# Altium schematic symbol library Main.SchLib: 76 symbols
Pins are listed as number, name and electrical type; pins without a type are passive.

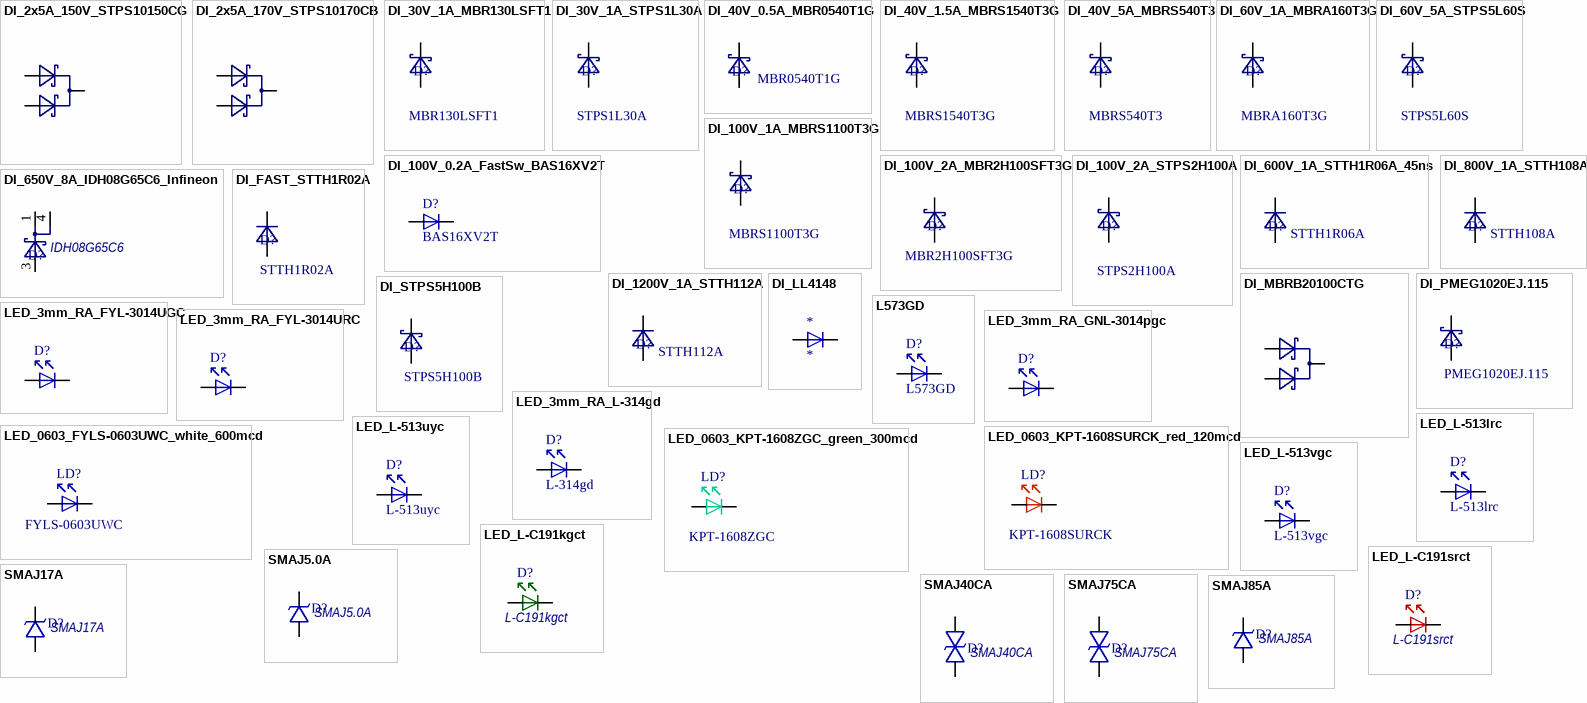
[diagram p0: symbols DI_2x5A_150V_STPS10150CG to SMAJ85A]

## DI_2x5A_150V_STPS10150CG
designator D?, comment STPS10150CG
HelpURL: L:\Dev\Техническая документация\Диоды\Шоттки\Мощные\2x5A_150V_stps10150c.pdf
footprint TO_263
pins: 1, 3, 4

## DI_2x5A_170V_STPS10170CB
designator D?, comment STPS10170CB
HelpURL: L:\Dev\Техническая документация\Диоды\Шоттки\Мощные\2x5A_170V_st_stps10170.pdf
footprint D-PAK
pins: 1, 2, 3

## DI_30V_1A_MBR130LSFT1
designator D?, comment Name: MBR130LSFT1  (hidden comment: MBR130LSFT1, ONS)
footprint DIODE_DO-219AB
pins: 1 A, 2 C

## DI_30V_1A_STPS1L30A
designator D?, comment Name: STPS1L30A  (hidden comment: STPS1L30A, ST)
footprint DIODE_DO-214AC (JEDEC DO214 variation AC. SMA)
pins: 1 A, 2 C

## DI_40V_0.5A_MBR0540T1G
designator D?, comment Name: MBR0540T1G  (hidden comment: MBR0540T1G, ONS)
HelpURL: L:\Dev\Техническая документация\Диоды\Шоттки\Маломощные\MBR0540T1-D.PDF
footprint SOD_123 (SOD, 2-Leads, Body 1.55x3.70mm, IPC Medium Density)
pins: A, C

## DI_40V_1.5A_MBRS1540T3G
designator D?, comment Name: MBRS1540T3G  (hidden comment: MBRS1540T3G, ONS)
footprint DIODE_DO-214AA (Molded Diode, 2-Leads, Body 4,31x3,62mm, IPC Medium Density)
pins: 1 A, 2 C

## DI_40V_5A_MBRS540T3
designator D?, comment Name: MBRS540T3  (hidden comment: MBRS540T3, ONS)
footprint DIODE_DO-214AB
pins: 1 A, 2 C

## DI_60V_1A_MBRA160T3G
designator D?, comment Name: MBRA160T3G  (hidden comment: MBRA160T3G, ONS)
footprint DIODE_DO-214AC (JEDEC DO214 variation AC. SMA)
pins: 1 A, 2 C

## DI_60V_5A_STPS5L60S
designator D?, comment Name: STPS5L60S  (hidden comment: STPS5L60S, ST)
Value: 60V 5A; HelpURL: L:\Dev\Техническая документация\Диоды\Шоттки\ST\60V_5A_stps5l60.pdf
footprint DIODE_DO-214AB
pins: 1 A, 2 C

## DI_100V_0.2A_FastSw_BAS16XV2T
designator D?, comment BAS16XV2T
Диод; Price, $: 0.02; HelpURL: L:\Dev\Техническая документация\Диоды\Fast Switching\Diodes\bas16xv2t1g.pdf
footprint SOD_523 (SC-79)
pins: A 1, C 2

## DI_100V_1A_MBRS1100T3G
designator D?, comment Name: MBRS1100T3G  (hidden comment: MBRS1100T3G, ONS)
footprint DIODE_DO-214AA (Molded Diode, 2-Leads, Body 4,31x3,62mm, IPC Medium Density)
pins: 1 A, 2 C

## DI_100V_2A_MBR2H100SFT3G
designator D?, comment Name: MBR2H100SFT3G  (hidden comment: MBR2H100SFT3G, ON)
HelpURL: L:\Dev\Техническая документация\Диоды\Шоттки\Мощные\100V_2A_mbr2h100sft3g_ONS.pdf
footprint SOD_123 (SOD, 2-Leads, Body 1.55x3.70mm, IPC Medium Density)
pins: A, C

## DI_100V_2A_STPS2H100A
designator D?, comment Name: STPS2H100A  (hidden comment: STPS2H100A, ST)
footprint DIODE_DO-214AC (JEDEC DO214 variation AC. SMA)
pins: 1 A, 2 C

## DI_600V_1A_STTH1R06A_45ns
designator D?, comment Name: STTH1R06A  (hidden comment: STTH1R06A, ST)
HelpURL: L:\Dev\Техническая документация\Диоды\Высоковольтные\st_stth1r06.pdf; Price, $: 0.15
footprint DIODE_DO-214AC (JEDEC DO214 variation AC. SMA)
pins: 1 A, 2 C

## DI_650V_8A_IDH08G65C6_Infineon
designator D?, comment value IDH08G65C6  (hidden comment: IDH08G65C6, Infineon)
Analog: IDH08G65C6XKSA1; HelpURL: L:\Dev\Техническая документация\Диоды\SiC\Infineon\8A_650V_IDH08G65C6.pdf
footprint TO_220AC-2 FLAT
pins: 1 A, 3 A, 4 C

## DI_800V_1A_STTH108A
designator D?, comment Name: STTH108A  (hidden comment: STTH108A, ST)
HelpURL: L:\Dev\Техническая документация\Диоды\Ультрабыстрые\stth108a.pdf
footprint DIODE_DO-214AC (JEDEC DO214 variation AC. SMA)
pins: 1 A, 2 C

## DI_1200V_1A_STTH112A
designator D?, comment Name: STTH112A  (hidden comment: STTH112A, ST)
HelpURL: L:\Dev\Техническая документация\Диоды\Ультрабыстрые\st~stth112.pdf
footprint DIODE_DO-214AC (JEDEC DO214 variation AC. SMA)
pins: 1 A, 2 C

## DI_FAST_STTH1R02A
designator D?, comment STTH1R02A
Vобр: 200V; Iпр: 1.5A; Vпр(Iпр1,5А): 1В
footprint DIODE_DO-214AC (JEDEC DO214 variation AC. SMA)
pins: 1 A, 2 C

## DI_LL4148
designator *
footprint SOD_80_MINIMELF
pins: A 1, C 2

## DI_MBRB20100CTG
designator D?, comment MBRB20100CTG
footprint TO_263
pins: 1, 3, 4

## DI_PMEG1020EJ.115
designator D?, comment PMEG1020EJ.115
footprint SOD_323 (SC-76)
pins: A, C

## DI_STPS5H100B
designator D?, comment STPS5H100B
Vr: 100V; If: 5A
footprint D-PAK
pins: 2 A, 3 C

## L573GD
designator D?
footprint LED_L-513
pins: 1, 2

## LED_3mm_RA_FYL-3014UGC
designator D?, comment FYL-3014UGC (FORYARD)  (value not drawn)
Analog: 151034GS03000, WE
footprint LED_L-314xx_RA
pins: 1, 2

## LED_3mm_RA_FYL-3014URC
designator D?, comment FYL-3014URC, FORYARD  (value not drawn)
Analog: 151033RS03000, WE
footprint LED_L-314xx_RA
pins: 1, 2

## LED_3mm_RA_GNL-3014pgc
designator D?, comment GNL-3014pgc  (value not drawn)
Analog: 151034GS03000, WE
footprint LED_L-314xx_RA
pins: 1, 2

## LED_3mm_RA_L-314gd
designator D?, comment L-314gd
footprint LED_L-314xx_RA
pins: 1, 2

## LED_0603_FYLS-0603UWC_white_600mcd
designator LD?, comment value FYLS-0603UWC  (hidden comment: FYLS-0603UWC, Foryard)
HelpURL: L:\Dev\Техническая документация\Светодиоды\FORYARD\FYLS-0603uwc.pdf
footprint LED_0603 WHITE
pins: 1, 2

## LED_0603_KPT-1608SURCK_red_120mcd
designator LD?, comment value KPT-1608SURCK  (hidden comment: KPT-1608SURCK, KingBright)
Analog: 150060RS75000; HelpURL: L:\Dev\Техническая документация\Светодиоды\Kingbright\SMD\KPT-1608SURCK(0603).pdf
footprint LED_0603_RED
pins: 1, 2

## LED_0603_KPT-1608ZGC_green_300mcd
designator LD?, comment value KPT-1608ZGC  (hidden comment: KPT-1608ZGC, KingBright)
Analog: 150060GS75000,WE; HelpURL: L:\Dev\Техническая документация\Светодиоды\Kingbright\SMD\KPT-1608ZGC(0603).pdf
footprint LED_0603_GREEN
pins: 1, 2

## LED_L-513lrc
designator D?, comment L-513lrc
footprint LED_L-513_red
pins: 1 A, 2 C

## LED_L-513uyc
designator D?, comment L-513uyc
footprint LED_L-513_yellow
pins: 1 A, 2 C

## LED_L-513vgc
designator D?, comment L-513vgc
footprint LED_L-513_green
pins: 1 A, 2 C

## LED_L-C191kgct
designator D?, comment value L-C191kgct  (hidden comment: L-C191kgct (0603) ParaLight)
HelpURL: L:\Dev\Техническая документация\Светодиоды\Paralight\L-C191KGCT.pdf; Price, $: 0.033
footprint LED_0603_GREEN
pins: 1, 2

## LED_L-C191srct
designator D?, comment value L-C191srct  (hidden comment: L-C191srct (0603) ParaLight)
footprint LED_0603_red
pins: 1, 2

## SMAJ5.0A
designator D?, comment value SMAJ5.0A  (hidden comment: SMAJ5.0A_LittleFuse)
Vbr: 6.4-7.0V; HelpURL: L:\Dev\Техническая документация\Диоды\Супрессоры\ltl_smaj.pdf
footprint DIODE_DO-214AC (JEDEC DO214 variation AC. SMA)
pins: 1 A, 2 C

## SMAJ17A
designator D?, comment value SMAJ17A  (hidden comment: SMAJ17A_LittleFuse)
Vbr: 18.9-20.9V; HelpURL: L:\Dev\Техническая документация\Диоды\Супрессоры\ltl_smaj.pdf
footprint DIODE_DO-214AC (JEDEC DO214 variation AC. SMA)
pins: 1 A, 2 C

## SMAJ40CA
designator D?, comment value SMAJ40CA  (hidden comment: SMAJ40CA_LittleFuse)
HelpURL: L:\Dev\Техническая документация\Диоды\Супрессоры\ltl_smaj.pdf
footprint DIODE_DO-214AC (JEDEC DO214 variation AC. SMA)
pins: 1 A, 2 C

## SMAJ75CA
designator D?, comment value SMAJ75CA  (hidden comment: SMAJ75CA_LittleFuse)
HelpURL: L:\Dev\Техническая документация\Диоды\Супрессоры\ltl_smaj.pdf
footprint DIODE_DO-214AC (JEDEC DO214 variation AC. SMA)
pins: 1 A, 2 C

## SMAJ85A
designator D?, comment value SMAJ85A  (hidden comment: SMAJ85A_LittleFuse)
Vbr: 94.4-104.0V; HelpURL: L:\Dev\Техническая документация\Диоды\Супрессоры\ltl_smaj.pdf
footprint DIODE_DO-214AC (JEDEC DO214 variation AC. SMA)
pins: 1 A, 2 C

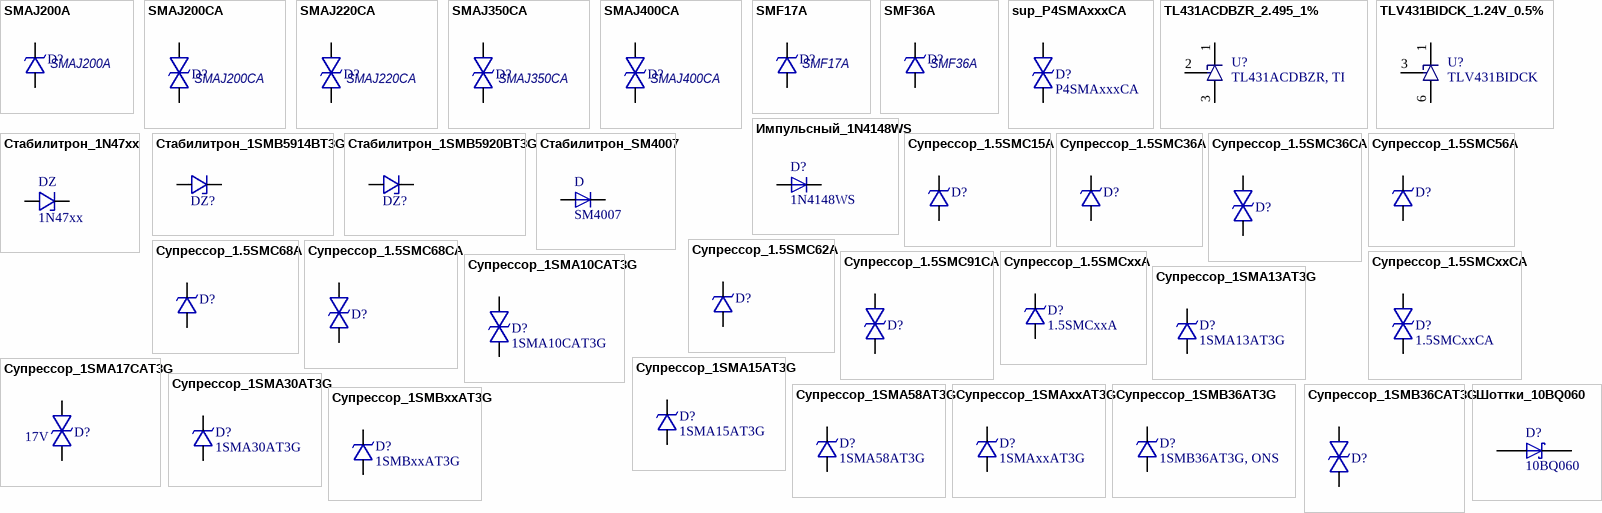
[diagram p1: symbols SMAJ200A to Шоттки_10BQ060]

## SMAJ200A
designator D?, comment value SMAJ200A  (hidden comment: SMAJ200A_LittleFuse)
HelpURL: L:\Dev\Техническая документация\Диоды\Супрессоры\ltl_smaj.pdf
footprint DIODE_DO-214AC (JEDEC DO214 variation AC. SMA)
pins: 1 A, 2 C

## SMAJ200CA
designator D?, comment value SMAJ200CA  (hidden comment: SMAJ200CA_LittleFuse)
HelpURL: L:\Dev\Техническая документация\Диоды\Супрессоры\ltl_smaj.pdf
footprint DIODE_DO-214AC (JEDEC DO214 variation AC. SMA)
pins: 1 A, 2 C

## SMAJ220CA
designator D?, comment value SMAJ220CA  (hidden comment: SMAJ220CA_LittleFuse)
HelpURL: L:\Dev\Техническая документация\Диоды\Супрессоры\ltl_smaj.pdf
footprint DIODE_DO-214AC (JEDEC DO214 variation AC. SMA)
pins: 1 A, 2 C

## SMAJ350CA
designator D?, comment value SMAJ350CA  (hidden comment: SMAJ350CA_LittleFuse)
HelpURL: L:\Dev\Техническая документация\Диоды\Супрессоры\ltl_smaj.pdf
footprint DIODE_DO-214AC (JEDEC DO214 variation AC. SMA)
pins: 1 A, 2 C

## SMAJ400CA
designator D?, comment value SMAJ400CA  (hidden comment: SMAJ400CA_LittleFuse)
HelpURL: L:\Dev\Техническая документация\Диоды\Супрессоры\ltl_smaj.pdf; Price, $: 0.2
footprint DIODE_DO-214AC (JEDEC DO214 variation AC. SMA)
pins: 1 A, 2 C

## SMF17A
designator D?, comment value SMF17A  (hidden comment: SMF17A, LittleFuse)
Vbr: 18.9-20.9V; HelpURL: L:\Dev\Техническая документация\Защита цепей\Супрессоры\Littelfuse_TVS_Diode_SMF_Datasheet.pdf.pdf
footprint DIODE_DO-219AB
pins: 1 A, 2 C

## SMF36A
designator D?, comment value SMF36A  (hidden comment: SMF36A, LittleFuse)
HelpURL: L:\Dev\Техническая документация\Защита цепей\Супрессоры\Littelfuse_TVS_Diode_SMF_Datasheet.pdf.pdf
footprint DIODE_DO-219AB
pins: 1 A, 2 C

## sup_P4SMAxxxCA
designator D?, comment P4SMAxxxCA
footprint DIODE_DO-214AC (JEDEC DO214 variation AC. SMA)
pins: 1, 2

## TL431ACDBZR_2.495_1%
designator U?, comment TL431ACDBZR, TI
HelpURL: L:\Dev\Техническая документация\Источники опорного напряжения\ti~tl431.pdf; Price, $: 0.12
footprint SOT_23 (SOT-23; 3 Leads; Body 3.0 x 2.5 mm, inc. leads (LxW max))
pins: 1, 2, 3

## TLV431BIDCK_1.24V_0.5%
designator U?, comment TLV431BIDCK
HelpURL: L:\Dev\Техническая документация\Источники опорного напряжения\TLV431_TI.pdf
footprint SC_70-6 (SC70-6; SOT-363)
pins: 1, 3, 6

## Импульсный_1N4148WS
designator D?, comment 1N4148WS
150 мА * 100 В; Analog: MMSD4148T1G (OnSemiconductor); Price, $: 0.02; HelpURL: L:\Dev\Техническая документация\Диоды\Fast Switching\Diodes\1N4148WS.pdf
footprint SOD_323 (SC-76)
pins: A 1, C 2

## Стабилитрон_1N47xx
designator DZ, comment 1N47xx
Datasheet: ZENER_1n47xx
footprint DIODE_DO-41 (Diode, Axial; Body 5.2 x 2.7 mm (LxDia. max), Lead Dia. 0.86 mm (max))
pins: A 1, C 2 (oc)

## Стабилитрон_1SMB5914BT3G
designator DZ?, comment 1SMB5914BT3G, ONS  (value not drawn)
3.6 В * 3 Вт; P: 3W; Vz: 3.6V; HelpURL: L:\Dev\Техническая документация\Диоды\Стабилитроны\ON\1SMB59xxBT3G.pdf
footprint DIODE_DO-214AA (Molded Diode, 2-Leads, Body 4,31x3,62mm, IPC Medium Density)
pins: 1, 2

## Стабилитрон_1SMB5920BT3G
designator DZ?, comment 1SMB5920BT3G, ONS  (value not drawn)
U = 6.2V; / P = 3W;; P: 3W; HelpURL: L:\Dev\Техническая документация\Диоды\Стабилитроны\ON\1SMB59xxBT3G.pdf; Vz: 6.2V
footprint DIODE_DO-214AA (Molded Diode, 2-Leads, Body 4,31x3,62mm, IPC Medium Density)
pins: 1, 2

## Стабилитрон_SM4007
designator D, comment SM4007
footprint DIODE_DO-213AB (MELF Diode, 2-Leads, Body 5,00x2,52mm, IPC Medium Density)
pins: A 1, C 2

## Супрессор_1.5SMC15A
designator D?, comment 1.5SMC15AT3G  (value not drawn)
HelpURL: L:\Dev\Техническая документация\Защита цепей\Супрессоры\Littelfuse_TVS_Diode_1_5SMC_Datasheet.pdf-365547.pdf; Value: 1.5SMC15A
footprint DIODE_DO-214AB
pins: 1, 2

## Супрессор_1.5SMC36A
designator D?, comment 1.5SMC36AT3G, (ONS)  (value not drawn)
HelpURL: L:\Dev\Техническая документация\Защита цепей\Супрессоры\Littelfuse_TVS_Diode_1_5SMC_Datasheet.pdf-365547.pdf; Value: 1.5SMC36A
footprint DIODE_DO-214AB
pins: 1, 2

## Супрессор_1.5SMC36CA
designator D?, comment 1.5SMC36CAT3G, (ONS)  (value not drawn)
HelpURL: L:\Dev\Техническая документация\Защита цепей\Супрессоры\Littelfuse_TVS_Diode_1_5SMC_Datasheet.pdf-365547.pdf; Value: 1.5SMC36CA
footprint DIODE_DO-214AB
pins: 1, 2

## Супрессор_1.5SMC56A
designator D?, comment 1.5SMC56A  (value not drawn)
HelpURL: L:\Dev\Техническая документация\Защита цепей\Супрессоры\Littelfuse_TVS_Diode_1_5SMC_Datasheet.pdf-365547.pdf; Value: 1.5SMC56A
footprint DIODE_DO-214AB
pins: 1, 2

## Супрессор_1.5SMC62A
designator D?, comment 1.5SMC62A, LTF  (value not drawn)
HelpURL: L:\Dev\Техническая документация\Защита цепей\Супрессоры\Littelfuse_TVS_Diode_1_5SMC_Datasheet.pdf-365547.pdf; Value: 1.5SMC62A
footprint DIODE_DO-214AB
pins: 1, 2

## Супрессор_1.5SMC68A
designator D?, comment 1.5SMC68AT3G, (ONS)  (value not drawn)
HelpURL: L:\Dev\Техническая документация\Защита цепей\Супрессоры\Littelfuse_TVS_Diode_1_5SMC_Datasheet.pdf-365547.pdf; Value: 1.5SMC68A
footprint DIODE_DO-214AB
pins: 1, 2

## Супрессор_1.5SMC68CA
designator D?, comment 1.5SMC68CAT3G, (ONS)  (value not drawn)
HelpURL: L:\Dev\Техническая документация\Защита цепей\Супрессоры\Littelfuse_TVS_Diode_1_5SMC_Datasheet.pdf-365547.pdf; Value: 1.5SMC68CA
footprint DIODE_DO-214AB
pins: 1, 2

## Супрессор_1.5SMC91CA
designator D?, comment 1.5SMC91CA, LittelFuse  (value not drawn)
HelpURL: L:\Dev\Техническая документация\Защита цепей\Супрессоры\Littelfuse_TVS_Diode_1_5SMC_Datasheet.pdf-365547.pdf; Value: 1.5SMC91CA
footprint DIODE_DO-214AB
pins: 1, 2

## Супрессор_1.5SMCxxA
designator D?, comment 1.5SMCxxA
HelpURL: L:\Dev\Техническая документация\Защита цепей\Супрессоры\Littelfuse_TVS_Diode_1_5SMC_Datasheet.pdf-365547.pdf
footprint DIODE_DO-214AB
pins: 1, 2

## Супрессор_1.5SMCxxCA
designator D?, comment 1.5SMCxxCA
HelpURL: L:\Dev\Техническая документация\Защита цепей\Супрессоры\Littelfuse_TVS_Diode_1_5SMC_Datasheet.pdf-365547.pdf
footprint DIODE_DO-214AB
pins: 1, 2

## Супрессор_1SMA10CAT3G
designator D?, comment 1SMA10CAT3G
Vsup: 10V
footprint DIODE_DO-214AC (JEDEC DO214 variation AC. SMA)
pins: 1 A, 2 C

## Супрессор_1SMA13AT3G
designator D?, comment 1SMA13AT3G
Vsup: 10V; Analog: Z1SMA13, Diotec; SMAJ13A, ST;
footprint DIODE_DO-214AC (JEDEC DO214 variation AC. SMA)
pins: 1 A, 2 C

## Супрессор_1SMA15AT3G
designator D?, comment 1SMA15AT3G
HelpURL: M:\Техническая документация\Защита цепей\Супрессоры\1SMAxxxxxT3G_ON.pdf
footprint DIODE_DO-214AC (JEDEC DO214 variation AC. SMA)
pins: 1 A, 2 C

## Супрессор_1SMA17CAT3G
designator D?, comment Vsup: 17V  (hidden comment: 1SMA17CAT3G)
Analog: SMAJ17CA; Price, $: 0.3
footprint DIODE_DO-214AC (JEDEC DO214 variation AC. SMA)
pins: 1 A, 2 C

## Супрессор_1SMA30AT3G
designator D?, comment 1SMA30AT3G
footprint DIODE_DO-214AC (JEDEC DO214 variation AC. SMA)
pins: 1 A, 2 C

## Супрессор_1SMA58AT3G
designator D?, comment 1SMA58AT3G
Analog: SMAJ58A; ComponentLink1Description: Datasheet_analog_SMAJ_ST; ComponentLink1URL: L:\Dev\Техническая документация\Защита цепей\Супрессоры\smaj_ST.pdf; HelpURL: L:\Dev\Техническая документация\Защита цепей\Супрессоры\1SMAxxxxxT3G_ON.pdf
footprint DIODE_DO-214AC (JEDEC DO214 variation AC. SMA)
pins: 1 A, 2 C

## Супрессор_1SMAxxAT3G
designator D?, comment 1SMAxxAT3G
footprint DIODE_DO-214AC (JEDEC DO214 variation AC. SMA)
pins: 1 A, 2 C

## Супрессор_1SMB36AT3G
designator D?, comment 1SMB36AT3G, ONS
Analog: SMBJ36A
footprint DIODE_DO-214AA (Molded Diode, 2-Leads, Body 4,31x3,62mm, IPC Medium Density)
pins: 1 A, 2 C

## Супрессор_1SMB36CAT3G
designator D?, comment P6SMB36CA, LTL  (value not drawn)
Analog: SMBJ36CA; 1SMB36CAT3G;; Value: P6SMB36CA
footprint DIODE_DO-214AA (Molded Diode, 2-Leads, Body 4,31x3,62mm, IPC Medium Density)
pins: 1 A, 2 C

## Супрессор_1SMBxxAT3G
designator D?, comment 1SMBxxAT3G
footprint DIODE_DO-214AA (Molded Diode, 2-Leads, Body 4,31x3,62mm, IPC Medium Density)
pins: 1 A, 2 C

## Шоттки_10BQ060
designator D?, comment 10BQ060
I = 1A; / U = 60V;
footprint DIODE_DO-214AA (Molded Diode, 2-Leads, Body 4,31x3,62mm, IPC Medium Density)
pins: 1, 2